# EAGLE library part NRF24L01+ (library robotter_ic)
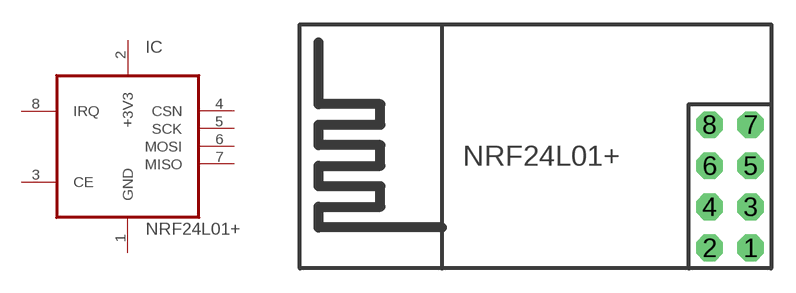
[diagram p22: symbol with the pads of NRF24L01+; footprint NRF24L01+]

Designator prefix IC

## NRF24L01+  [NRF24L01+]
1  GND  in
2  +3V3
3  CE
4  CSN
5  SCK
6  MOSI  in
7  MISO
8  IRQ

## Footprint NRF24L01+ (pad centres in mm)
drill 1.1 octagon: 1 1.27,-3.81; 2 -1.27,-3.81; 3 1.27,-1.27; 4 -1.27,-1.27; 5 1.27,1.27; 6 -1.27,1.27; 7 1.27,3.81; 8 -1.27,3.81